# EAGLE library part ESP07-14PIN (library esp8266-modules)
ESP8266 Wifi module 07 - 14 pins
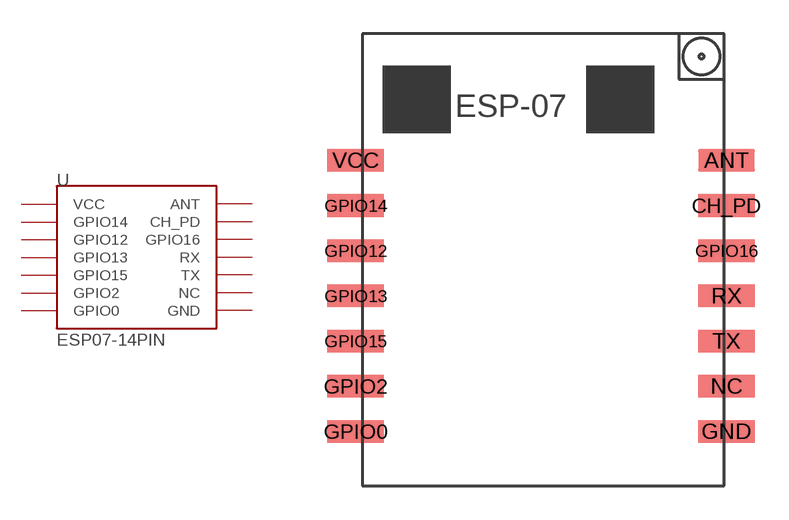
[diagram p10: symbol with the pads of ESP07-14PIN; footprint ESP07-14PIN]

Designator prefix -

## ESP07-14PIN (DIMENSIONS: 20.0 x 16.0 mm; PINS: 14; PITCH: 0.078" / 2 mm)  [ESP07-14PIN]
ANT  ANT
CH_PD  CH_PD
GND  GND
GPIO0  GPIO0
GPIO2  GPIO2
GPIO12  GPIO12
GPIO13  GPIO13
GPIO14  GPIO14
GPIO15  GPIO15
GPIO16  GPIO16
NC  NC
RX  RX
TX  TX
VCC  VCC

## Footprint ESP07-14PIN (pad centres in mm)
ESP8266 Module ESP-07 - 14 pins
smd 2.5 x 1: ANT 8.2,6.8; CH_PD 8.2,4.8; GND 8.2,-5.2; GPIO0 -8.2,-5.2; GPIO2 -8.2,-3.2; GPIO12 -8.2,2.8; GPIO13 -8.2,0.8; GPIO14 -8.2,4.8; GPIO15 -8.2,-1.2; GPIO16 8.2,2.8; NC 8.2,-3.2; RX 8.2,0.8; TX 8.2,-1.2; VCC -8.2,6.8